# Altium integrated library 6.3_Audio_Jack.IntLib: 1 symbol
Pins are listed as number, name and electrical type; pins without a type are passive.

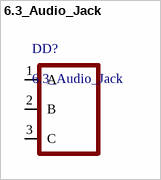
[diagram p0: symbol 6.3_Audio_Jack]

## 6.3_Audio_Jack
designator DD?
footprint 6.3_Audio_Jack
pins: 1 A, 2 B, 3 C